# EAGLE library part CC2592 (library RF)
IC RF 2.4 GHZ RANGE EXTENDER CC2592 CC2592 <http://www.ti.com/product/CC2592/technicaldocuments> Datasheet <http://www.ti.com/lit/gpn/cc2592>
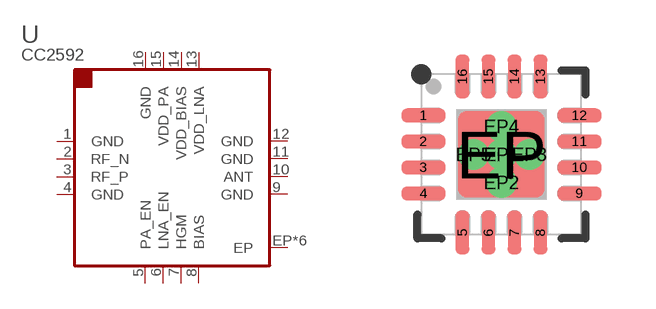
[diagram p4: symbol with the pads of S-PVQFN-N16; footprint S-PVQFN-N16]

Designator prefix U

## CC2592RGV (DATASHEET: https://goo.gl/Pi2TsH; DESC: IC RF 2.4 GHZ RANGE EXTENDER; MANF: Texas Instruments; MFPN: CC2592RGV; PARTNO: 01-100544-00)  [S-PVQFN-N16]
1  GND  pwr
2  RF_N  pas
3  RF_P  pas
4  GND  pwr
5  PA_EN  in
6  LNA_EN  in
7  HGM  in
8  BIAS  pas
9  GND  pwr
10  ANT  pas
11  GND  pwr
12  GND  pwr
13  VDD_LNA  pwr
14  VDD_BIAS  pwr
15  VDD_PA  pwr
16  GND  pwr
EP  EP  pwr
EP1  EP  pwr
EP2  EP  pwr
EP3  EP  pwr
EP4  EP  pwr
EP5  EP  pwr

## Footprint S-PVQFN-N16 (pad centres in mm)
16 POS Plastic Quad Flatpack No-Lead Texas Instruments RGV Changelog: 09/15/15: Created for CC2592
smd 1.1 x 0.35: 1 -1.95,0.975; 2 -1.95,0.325; 3 -1.95,-0.325; 4 -1.95,-0.975; 9 1.95,-0.975; 10 1.95,-0.325; 11 1.95,0.325; 12 1.95,0.975
smd 0.35 x 1.1: 5 -0.975,-1.95; 6 -0.325,-1.95; 7 0.325,-1.95; 8 0.975,-1.95; 13 0.975,1.95; 14 0.325,1.95; 15 -0.325,1.95; 16 -0.975,1.95
smd 2.16 x 2.16: EP 0,0
drill 0.254 pad 0.406: EP1 0,0; EP2 0,-0.7; EP3 0.7,0; EP4 0,0.7; EP5 -0.7,0